# EAGLE library part EXP-CD (library T1200)
Toshiba Proprietary Slot Toshiba Expansion Bus Connector (C side/D side) 40 pins / 1.27 mm pin spacing
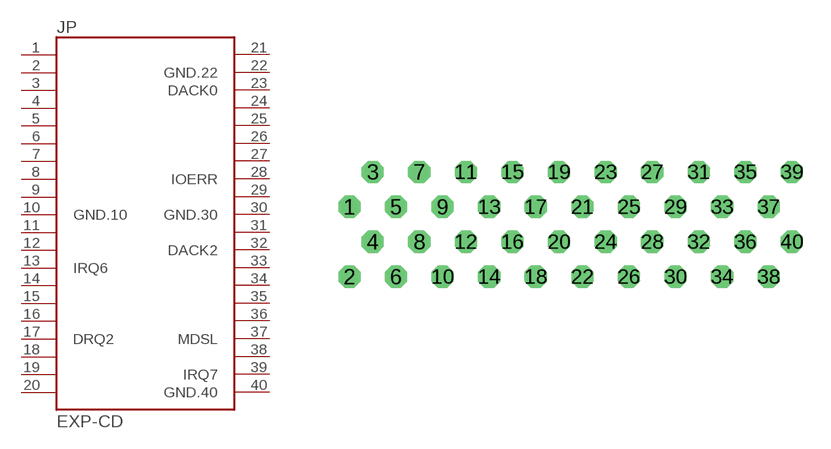
[diagram p3: symbol with the pads of CONN40; footprint CONN40]

Designator prefix JP

## EXP-CD  [CONN40]
1  NC.1  nc
2  NC.2  nc
3  NC.3  nc
4  NC.4  nc
5  NC.5  nc
6  NC.6  nc
7  NC.7  nc
8  NC.8  nc
9  NC.9  nc
10  GND.10
11  NC.11  nc
12  NC.12  nc
13  IRQ6
14  NC.14  nc
15  NC.15  nc
16  NC.16  nc
17  DRQ2
18  NC.18  nc
19  NC.19  nc
20  NC.20  nc
21  NC.21  nc
22  GND.22
23  DACK0
24  NC.24  nc
25  NC.25  nc
26  NC.26  nc
27  NC.27  nc
28  IOERR
29  NC.29  nc
30  GND.30
31  NC.31  nc
32  DACK2
33  NC.33  nc
34  NC.34  nc
35  NC.35  nc
36  NC.36  nc
37  MDSL
38  NC.38  nc
39  IRQ7
40  GND.40

## Footprint CONN40 (pad centres in mm)
drill 0.7 octagon: 1 -12.065,0.953; 2 -12.065,-2.857; 3 -10.795,2.857; 4 -10.795,-0.953; 5 -9.525,0.953; 6 -9.525,-2.857; 7 -8.255,2.857; 8 -8.255,-0.953; 9 -6.985,0.953; 10 -6.985,-2.857; 11 -5.715,2.857; 12 -5.715,-0.953; 13 -4.445,0.953; 14 -4.445,-2.857; 15 -3.175,2.857; 16 -3.175,-0.953; 17 -1.905,0.953; 18 -1.905,-2.857; 19 -0.635,2.857; 20 -0.635,-0.953; 21 0.635,0.953; 22 0.635,-2.857; 23 1.905,2.857; 24 1.905,-0.953; 25 3.175,0.953; 26 3.175,-2.857; 27 4.445,2.857; 28 4.445,-0.953; 29 5.715,0.953; 30 5.715,-2.857; 31 6.985,2.857; 32 6.985,-0.953; 33 8.255,0.953; 34 8.255,-2.857; 35 9.525,2.857; 36 9.525,-0.953; 37 10.795,0.953; 38 10.795,-2.857; 39 12.065,2.857; 40 12.065,-0.953